# Altium schematic symbol library IR2301S.SchLib: 1 symbol
Pins are listed as number, name and electrical type; pins without a type are passive.

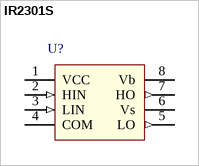
[diagram p0: symbol IR2301S]

## IR2301S
designator U?  (value not drawn)
footprint SO-8_N (SOIC, 8-Leads, Body 4.9x3.9mm, Pitch 1.27mm, IPC Medium Density)
pins: 1 VCC (power), 2 HIN (in), 3 LIN (in), 4 COM (power), 5 LO (out), 6 Vs, 7 HO (out), 8 Vb